# Altium footprint library max14808.PcbLib: 3 footprints
Each footprint in its own frame and in the unit in brackets; x right, y up, seen from the top. Pads: shape width x height; smd on the part's side, far side on the other; paste and mask are expansions set on the pad; w line width, h text height; cw(c..) or ccw(c..) is an arc to the next point about the centre after c.
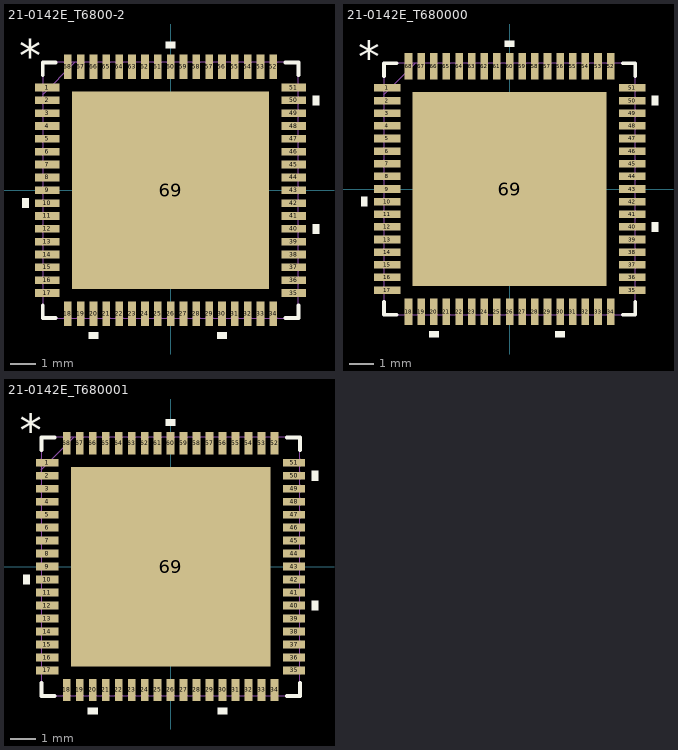
[diagram p0: the footprints below, top view; thin cyan lines are the x and y axes]

## 21-0142E_T6800-2 [mil]
pads (69):
  rect 38x12 smd: 1(-192,160) 2(-192,140) 3(-192,120) 4(-192,100) 5(-192,80) 6(-192,60) 7(-192,40) 8(-192,20) 9(-192,0) 10(-192,-20) 11(-192,-40) 12(-192,-60) 13(-192,-80) 14(-192,-100) 15(-192,-120) 16(-192,-140) 17(-192,-160) 35(192,-160) 36(192,-140) 37(192,-120) 38(192,-100) 39(192,-80) 40(192,-60) 41(192,-40) 42(192,-20) 43(192,0) 44(192,20) 45(192,40) 46(192,60) 47(192,80) 48(192,100) 49(192,120) 50(192,140) 51(192,160)
  rect 12x38 smd: 18(-160,-192) 19(-140,-192) 20(-120,-192) 21(-100,-192) 22(-80,-192) 23(-60,-192) 24(-40,-192) 25(-20,-192) 26(0,-192) 27(20,-192) 28(40,-192) 29(60,-192) 30(80,-192) 31(100,-192) 32(120,-192) 33(140,-192) 34(160,-192) 52(160,192) 53(140,192) 54(120,192) 55(100,192) 56(80,192) 57(60,192) 58(40,192) 59(20,192) 60(0,192) 61(-20,192) 62(-40,192) 63(-60,192) 64(-80,192) 65(-100,192) 66(-120,192) 67(-140,192) 68(-160,192)
  rect 307x307 smd paste-153: 69(0,0)
Top Overlay:
  region: -221,-12.5 -231,-12.5 -231,-27.5 -221,-27.5
  region: -112.5,-221 -127.5,-221 -127.5,-231 -112.5,-231
  region: 87.5,-221 72.5,-221 72.5,-231 87.5,-231
  region: 221,-52.5 231,-52.5 231,-67.5 221,-67.5
  region: 221,147.5 231,147.5 231,132.5 221,132.5
  region: 7.5,221 -7.5,221 -7.5,231 7.5,231
  lines w6: -199,-179.1 -199,-199 -179.1,-199 ; -199,179.1 -199,199 -179.1,199 ; 179.1,-199 199,-199 199,-179.1 ; 179.1,199 199,199 199,179.1
  text "*" at -236,185 h50
  text "PN" at 0,0 h50
  text "DEV" at 0,0 h50
  text "VAL" at 0,0 h50
  text "TOL" at 0,0 h50
Top Paste:
  region: -106.27,149.56 -149.56,149.56 -149.56,106.27 -106.27,106.27
  region: -106.27,98.4 -149.56,98.4 -149.56,55.1 -106.27,55.1
  region: -106.27,47.23 -149.56,47.23 -149.56,3.94 -106.27,3.94
  region: -106.27,-3.94 -149.56,-3.94 -149.56,-47.23 -106.27,-47.23
  region: -106.27,-55.1 -149.56,-55.1 -149.56,-98.4 -106.27,-98.4
  region: -106.27,-106.27 -149.56,-106.27 -149.56,-149.56 -106.27,-149.56
  region: -55.1,149.56 -98.4,149.56 -98.4,106.27 -55.1,106.27
  region: -55.1,98.4 -98.4,98.4 -98.4,55.1 -55.1,55.1
  region: -55.1,47.23 -98.4,47.23 -98.4,3.94 -55.1,3.94
  region: -55.1,-3.94 -98.4,-3.94 -98.4,-47.23 -55.1,-47.23
  region: -55.1,-55.1 -98.4,-55.1 -98.4,-98.4 -55.1,-98.4
  region: -55.1,-106.27 -98.4,-106.27 -98.4,-149.56 -55.1,-149.56
  region: -3.94,149.56 -47.23,149.56 -47.23,106.27 -3.94,106.27
  region: -3.94,98.4 -47.23,98.4 -47.23,55.1 -3.94,55.1
  region: -3.94,47.23 -47.23,47.23 -47.23,3.94 -3.94,3.94
  region: -3.94,-3.94 -47.23,-3.94 -47.23,-47.23 -3.94,-47.23
  region: -3.94,-55.1 -47.23,-55.1 -47.23,-98.4 -3.94,-98.4
  region: -3.94,-106.27 -47.23,-106.27 -47.23,-149.56 -3.94,-149.56
  region: 47.23,149.56 3.94,149.56 3.94,106.27 47.23,106.27
  region: 47.23,98.4 3.94,98.4 3.94,55.1 47.23,55.1
  region: 47.23,47.23 3.94,47.23 3.94,3.94 47.23,3.94
  region: 47.23,-3.94 3.94,-3.94 3.94,-47.23 47.23,-47.23
  region: 47.23,-55.1 3.94,-55.1 3.94,-98.4 47.23,-98.4
  region: 47.23,-106.27 3.94,-106.27 3.94,-149.56 47.23,-149.56
  region: 98.4,149.56 55.1,149.56 55.1,106.27 98.4,106.27
  region: 98.4,98.4 55.1,98.4 55.1,55.1 98.4,55.1
  region: 98.4,47.23 55.1,47.23 55.1,3.94 98.4,3.94
  region: 98.4,-3.94 55.1,-3.94 55.1,-47.23 98.4,-47.23
  region: 98.4,-55.1 55.1,-55.1 55.1,-98.4 98.4,-98.4
  region: 98.4,-106.27 55.1,-106.27 55.1,-149.56 98.4,-149.56
  region: 149.56,149.56 106.27,149.56 106.27,106.27 149.56,106.27
  region: 149.56,98.4 106.27,98.4 106.27,55.1 149.56,55.1
  region: 149.56,47.23 106.27,47.23 106.27,3.94 149.56,3.94
  region: 149.56,-3.94 106.27,-3.94 106.27,-47.23 149.56,-47.23
  region: 149.56,-55.1 106.27,-55.1 106.27,-98.4 149.56,-98.4
  region: 149.56,-106.27 106.27,-106.27 106.27,-149.56 149.56,-149.56
Mechanical 1:
  drawing of 281 lines, arcs and shapes, not listed
  text "*" at -236,185 h50
  text "RefDes2" at 0,0 h50

## 21-0142E_T680000 [mil]
pads (69):
  rect 42x12 smd: 1(-194,160) 2(-194,140) 3(-194,120) 4(-194,100) 5(-194,80) 6(-194,60) 7(-194,40) 8(-194,20) 9(-194,0) 10(-194,-20) 11(-194,-40) 12(-194,-60) 13(-194,-80) 14(-194,-100) 15(-194,-120) 16(-194,-140) 17(-194,-160) 35(194,-160) 36(194,-140) 37(194,-120) 38(194,-100) 39(194,-80) 40(194,-60) 41(194,-40) 42(194,-20) 43(194,0) 44(194,20) 45(194,40) 46(194,60) 47(194,80) 48(194,100) 49(194,120) 50(194,140) 51(194,160)
  rect 12x42 smd: 18(-160,-194) 19(-140,-194) 20(-120,-194) 21(-100,-194) 22(-80,-194) 23(-60,-194) 24(-40,-194) 25(-20,-194) 26(0,-194) 27(20,-194) 28(40,-194) 29(60,-194) 30(80,-194) 31(100,-194) 32(120,-194) 33(140,-194) 34(160,-194) 52(160,194) 53(140,194) 54(120,194) 55(100,194) 56(80,194) 57(60,194) 58(40,194) 59(20,194) 60(0,194) 61(-20,194) 62(-40,194) 63(-60,194) 64(-80,194) 65(-100,194) 66(-120,194) 67(-140,194) 68(-160,194)
  rect 307x307 smd paste-153: 69(0,0)
Top Overlay:
  region: -225,-12.5 -235,-12.5 -235,-27.5 -225,-27.5
  region: -112.5,-225 -127.5,-225 -127.5,-235 -112.5,-235
  region: 87.5,-225 72.5,-225 72.5,-235 87.5,-235
  region: 225,-52.5 235,-52.5 235,-67.5 225,-67.5
  region: 225,147.5 235,147.5 235,132.5 225,132.5
  region: 7.5,225 -7.5,225 -7.5,235 7.5,235
  lines w6: -199,-179.1 -199,-199 -179.1,-199 ; -199,179.1 -199,199 -179.1,199 ; 179.1,-199 199,-199 199,-179.1 ; 179.1,199 199,199 199,179.1
  text "*" at -240,185 h50
  text "PN" at 0,0 h50
  text "DEV" at 0,0 h50
  text "VAL" at 0,0 h50
  text "TOL" at 0,0 h50
Top Paste:
  region: -106.27,149.56 -149.56,149.56 -149.56,106.27 -106.27,106.27
  region: -106.27,98.4 -149.56,98.4 -149.56,55.1 -106.27,55.1
  region: -106.27,47.23 -149.56,47.23 -149.56,3.94 -106.27,3.94
  region: -106.27,-3.94 -149.56,-3.94 -149.56,-47.23 -106.27,-47.23
  region: -106.27,-55.1 -149.56,-55.1 -149.56,-98.4 -106.27,-98.4
  region: -106.27,-106.27 -149.56,-106.27 -149.56,-149.56 -106.27,-149.56
  region: -55.1,149.56 -98.4,149.56 -98.4,106.27 -55.1,106.27
  region: -55.1,98.4 -98.4,98.4 -98.4,55.1 -55.1,55.1
  region: -55.1,47.23 -98.4,47.23 -98.4,3.94 -55.1,3.94
  region: -55.1,-3.94 -98.4,-3.94 -98.4,-47.23 -55.1,-47.23
  region: -55.1,-55.1 -98.4,-55.1 -98.4,-98.4 -55.1,-98.4
  region: -55.1,-106.27 -98.4,-106.27 -98.4,-149.56 -55.1,-149.56
  region: -3.94,149.56 -47.23,149.56 -47.23,106.27 -3.94,106.27
  region: -3.94,98.4 -47.23,98.4 -47.23,55.1 -3.94,55.1
  region: -3.94,47.23 -47.23,47.23 -47.23,3.94 -3.94,3.94
  region: -3.94,-3.94 -47.23,-3.94 -47.23,-47.23 -3.94,-47.23
  region: -3.94,-55.1 -47.23,-55.1 -47.23,-98.4 -3.94,-98.4
  region: -3.94,-106.27 -47.23,-106.27 -47.23,-149.56 -3.94,-149.56
  region: 47.23,149.56 3.94,149.56 3.94,106.27 47.23,106.27
  region: 47.23,98.4 3.94,98.4 3.94,55.1 47.23,55.1
  region: 47.23,47.23 3.94,47.23 3.94,3.94 47.23,3.94
  region: 47.23,-3.94 3.94,-3.94 3.94,-47.23 47.23,-47.23
  region: 47.23,-55.1 3.94,-55.1 3.94,-98.4 47.23,-98.4
  region: 47.23,-106.27 3.94,-106.27 3.94,-149.56 47.23,-149.56
  region: 98.4,149.56 55.1,149.56 55.1,106.27 98.4,106.27
  region: 98.4,98.4 55.1,98.4 55.1,55.1 98.4,55.1
  region: 98.4,47.23 55.1,47.23 55.1,3.94 98.4,3.94
  region: 98.4,-3.94 55.1,-3.94 55.1,-47.23 98.4,-47.23
  region: 98.4,-55.1 55.1,-55.1 55.1,-98.4 98.4,-98.4
  region: 98.4,-106.27 55.1,-106.27 55.1,-149.56 98.4,-149.56
  region: 149.56,149.56 106.27,149.56 106.27,106.27 149.56,106.27
  region: 149.56,98.4 106.27,98.4 106.27,55.1 149.56,55.1
  region: 149.56,47.23 106.27,47.23 106.27,3.94 149.56,3.94
  region: 149.56,-3.94 106.27,-3.94 106.27,-47.23 149.56,-47.23
  region: 149.56,-55.1 106.27,-55.1 106.27,-98.4 149.56,-98.4
  region: 149.56,-106.27 106.27,-106.27 106.27,-149.56 149.56,-149.56
Mechanical 1:
  drawing of 281 lines, arcs and shapes, not listed
  text "*" at -240,185 h50
  text "RefDes2" at 0,0 h50

## 21-0142E_T680001 [mil]
pads (69):
  rect 34x12 smd: 1(-190,160) 2(-190,140) 3(-190,120) 4(-190,100) 5(-190,80) 6(-190,60) 7(-190,40) 8(-190,20) 9(-190,0) 10(-190,-20) 11(-190,-40) 12(-190,-60) 13(-190,-80) 14(-190,-100) 15(-190,-120) 16(-190,-140) 17(-190,-160) 35(190,-160) 36(190,-140) 37(190,-120) 38(190,-100) 39(190,-80) 40(190,-60) 41(190,-40) 42(190,-20) 43(190,0) 44(190,20) 45(190,40) 46(190,60) 47(190,80) 48(190,100) 49(190,120) 50(190,140) 51(190,160)
  rect 12x34 smd: 18(-160,-190) 19(-140,-190) 20(-120,-190) 21(-100,-190) 22(-80,-190) 23(-60,-190) 24(-40,-190) 25(-20,-190) 26(0,-190) 27(20,-190) 28(40,-190) 29(60,-190) 30(80,-190) 31(100,-190) 32(120,-190) 33(140,-190) 34(160,-190) 52(160,190) 53(140,190) 54(120,190) 55(100,190) 56(80,190) 57(60,190) 58(40,190) 59(20,190) 60(0,190) 61(-20,190) 62(-40,190) 63(-60,190) 64(-80,190) 65(-100,190) 66(-120,190) 67(-140,190) 68(-160,190)
  rect 307x307 smd paste-153: 69(0,0)
Top Overlay:
  region: -217,-12.5 -227,-12.5 -227,-27.5 -217,-27.5
  region: -112.5,-217 -127.5,-217 -127.5,-227 -112.5,-227
  region: 87.5,-217 72.5,-217 72.5,-227 87.5,-227
  region: 217,-52.5 227,-52.5 227,-67.5 217,-67.5
  region: 217,147.5 227,147.5 227,132.5 217,132.5
  region: 7.5,217 -7.5,217 -7.5,227 7.5,227
  lines w6: -199,-179.1 -199,-199 -179.1,-199 ; -199,179.1 -199,199 -179.1,199 ; 179.1,-199 199,-199 199,-179.1 ; 179.1,199 199,199 199,179.1
  text "*" at -232,185 h50
  text "PN" at 0,0 h50
  text "DEV" at 0,0 h50
  text "VAL" at 0,0 h50
  text "TOL" at 0,0 h50
Top Paste:
  region: -106.27,149.56 -149.56,149.56 -149.56,106.27 -106.27,106.27
  region: -106.27,98.4 -149.56,98.4 -149.56,55.1 -106.27,55.1
  region: -106.27,47.23 -149.56,47.23 -149.56,3.94 -106.27,3.94
  region: -106.27,-3.94 -149.56,-3.94 -149.56,-47.23 -106.27,-47.23
  region: -106.27,-55.1 -149.56,-55.1 -149.56,-98.4 -106.27,-98.4
  region: -106.27,-106.27 -149.56,-106.27 -149.56,-149.56 -106.27,-149.56
  region: -55.1,149.56 -98.4,149.56 -98.4,106.27 -55.1,106.27
  region: -55.1,98.4 -98.4,98.4 -98.4,55.1 -55.1,55.1
  region: -55.1,47.23 -98.4,47.23 -98.4,3.94 -55.1,3.94
  region: -55.1,-3.94 -98.4,-3.94 -98.4,-47.23 -55.1,-47.23
  region: -55.1,-55.1 -98.4,-55.1 -98.4,-98.4 -55.1,-98.4
  region: -55.1,-106.27 -98.4,-106.27 -98.4,-149.56 -55.1,-149.56
  region: -3.94,149.56 -47.23,149.56 -47.23,106.27 -3.94,106.27
  region: -3.94,98.4 -47.23,98.4 -47.23,55.1 -3.94,55.1
  region: -3.94,47.23 -47.23,47.23 -47.23,3.94 -3.94,3.94
  region: -3.94,-3.94 -47.23,-3.94 -47.23,-47.23 -3.94,-47.23
  region: -3.94,-55.1 -47.23,-55.1 -47.23,-98.4 -3.94,-98.4
  region: -3.94,-106.27 -47.23,-106.27 -47.23,-149.56 -3.94,-149.56
  region: 47.23,149.56 3.94,149.56 3.94,106.27 47.23,106.27
  region: 47.23,98.4 3.94,98.4 3.94,55.1 47.23,55.1
  region: 47.23,47.23 3.94,47.23 3.94,3.94 47.23,3.94
  region: 47.23,-3.94 3.94,-3.94 3.94,-47.23 47.23,-47.23
  region: 47.23,-55.1 3.94,-55.1 3.94,-98.4 47.23,-98.4
  region: 47.23,-106.27 3.94,-106.27 3.94,-149.56 47.23,-149.56
  region: 98.4,149.56 55.1,149.56 55.1,106.27 98.4,106.27
  region: 98.4,98.4 55.1,98.4 55.1,55.1 98.4,55.1
  region: 98.4,47.23 55.1,47.23 55.1,3.94 98.4,3.94
  region: 98.4,-3.94 55.1,-3.94 55.1,-47.23 98.4,-47.23
  region: 98.4,-55.1 55.1,-55.1 55.1,-98.4 98.4,-98.4
  region: 98.4,-106.27 55.1,-106.27 55.1,-149.56 98.4,-149.56
  region: 149.56,149.56 106.27,149.56 106.27,106.27 149.56,106.27
  region: 149.56,98.4 106.27,98.4 106.27,55.1 149.56,55.1
  region: 149.56,47.23 106.27,47.23 106.27,3.94 149.56,3.94
  region: 149.56,-3.94 106.27,-3.94 106.27,-47.23 149.56,-47.23
  region: 149.56,-55.1 106.27,-55.1 106.27,-98.4 149.56,-98.4
  region: 149.56,-106.27 106.27,-106.27 106.27,-149.56 149.56,-149.56
Mechanical 1:
  drawing of 281 lines, arcs and shapes, not listed
  text "*" at -232,185 h50
  text "RefDes2" at 0,0 h50